# EAGLE library part HDC2080DMBR (library BlueHome)
Board Mount Humidity Sensors Low Power Humidity and Temperature Digital Sensor 6-WSON -40 to 85 Source: Datasheet <http://www.ti.com/general/docs/suppproductinfo.tsp?distId=26&gotoUrl=http://www.ti.com/lit/ds/symlink/hdc2080.pdf>
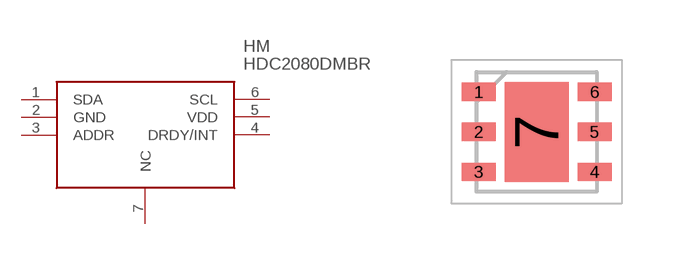
[diagram p13: symbol with the pads of SON100P300X300X80-7N; footprint SON100P300X300X80-7N]

Designator prefix HM

## HDC2080DMBR (DESCRIPTION: Board Mount Humidity Sensors Low Power Humidity and Temperature Digital Sensor 6-WSON -40 to 85; HEIGHT: 0.8mm; MANUFACTURER_NAME: Texas Instruments; MANUFACTURER_PART_NUMBER: HDC2080DMBR; MOUSER_PART_NUMBER: 595-HDC2080DMBR)  [SON100P300X300X80-7N]
1  SDA
2  GND  pwr
3  ADDR  in
4  DRDY/INT  out
5  VDD  pwr
6  SCL  in
7  NC  nc

## Footprint SON100P300X300X80-7N (pad centres in mm)
WSON6
smd 0.85 x 0.45: 1 -1.45,1; 2 -1.45,0; 3 -1.45,-1; 4 1.45,-1; 5 1.45,0; 6 1.45,1
smd 1.6 x 2.5: 7 0,0